# EAGLE library part XC9536XL_PC44 (library Test)
XC9536XL_PC44 edit this description Auto generated by make-symbol-device-package-bsdl.ulp Rev. 44 Source: XC9536XL_PC44.bsdl
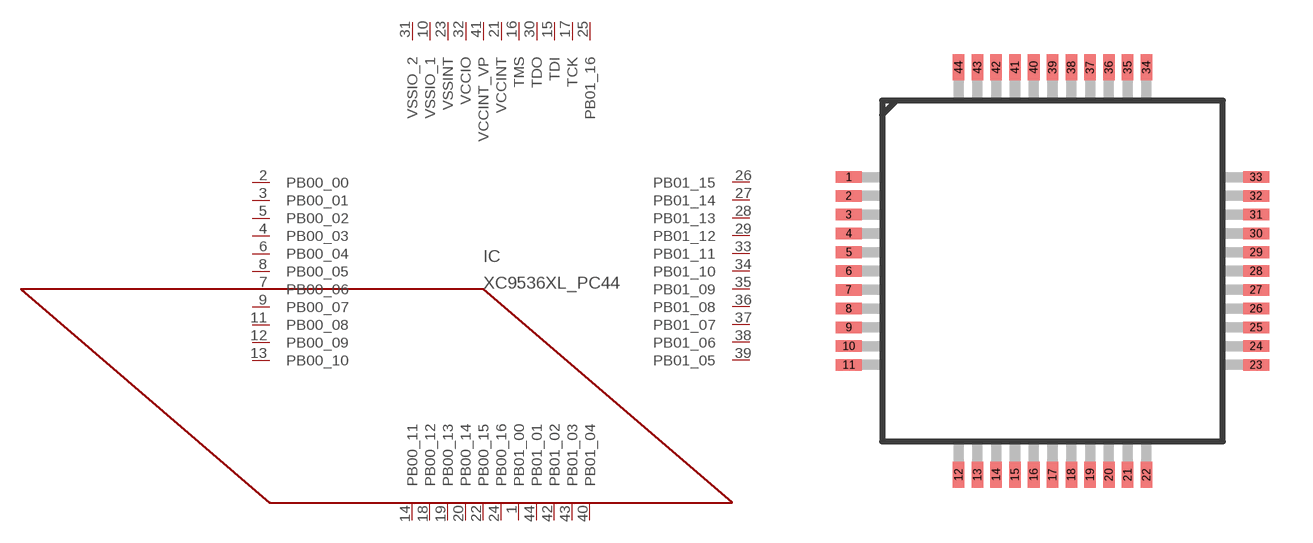
[diagram p0: symbol with the pads of PC44; footprint PC44]

Designator prefix IC

## XC9536XL_PC44  [PC44]
1  PB01_00
2  PB00_00
3  PB00_01
4  PB00_03
5  PB00_02
6  PB00_04
7  PB00_06
8  PB00_05
9  PB00_07
10  VSSIO_1  pas
11  PB00_08
12  PB00_09
13  PB00_10
14  PB00_11
15  TDI  in
16  TMS  in
17  TCK  in
18  PB00_12
19  PB00_13
20  PB00_14
21  VCCINT  pas
22  PB00_15
23  VSSINT  pas
24  PB00_16
25  PB01_16
26  PB01_15
27  PB01_14
28  PB01_13
29  PB01_12
30  TDO  out
31  VSSIO_2  pas
32  VCCIO  pas
33  PB01_11
34  PB01_10
35  PB01_09
36  PB01_08
37  PB01_07
38  PB01_06
39  PB01_05
40  PB01_04
41  VCCINT_VP  pas
42  PB01_02
43  PB01_03
44  PB01_01

## Footprint PC44 (pad centres in mm)
PC44 Auto generated by make-symbol-device-package-bsdl.ulp Rev. 44
smd 0.9 x 0.4: 1 -7.05,3.25; 2 -7.05,2.6; 3 -7.05,1.95; 4 -7.05,1.3; 5 -7.05,0.65; 6 -7.05,0; 7 -7.05,-0.65; 8 -7.05,-1.3; 9 -7.05,-1.95; 10 -7.05,-2.6; 11 -7.05,-3.25; 23 7.05,-3.25; 24 7.05,-2.6; 25 7.05,-1.95; 26 7.05,-1.3; 27 7.05,-0.65; 28 7.05,0; 29 7.05,0.65; 30 7.05,1.3; 31 7.05,1.95; 32 7.05,2.6; 33 7.05,3.25
smd 0.4 x 0.9: 12 -3.25,-7.05; 13 -2.6,-7.05; 14 -1.95,-7.05; 15 -1.3,-7.05; 16 -0.65,-7.05; 17 0,-7.05; 18 0.65,-7.05; 19 1.3,-7.05; 20 1.95,-7.05; 21 2.6,-7.05; 22 3.25,-7.05; 34 3.25,7.05; 35 2.6,7.05; 36 1.95,7.05; 37 1.3,7.05; 38 0.65,7.05; 39 0,7.05; 40 -0.65,7.05; 41 -1.3,7.05; 42 -1.95,7.05; 43 -2.6,7.05; 44 -3.25,7.05